# EAGLE library part FT232RQ (library IC_Interface)
USB Bridge, USB to UART USB 2.0 UART Interface Datasheet <https://www.ftdichip.com/Support/Documents/DataSheets/ICs/DS_FT232R.pdf>
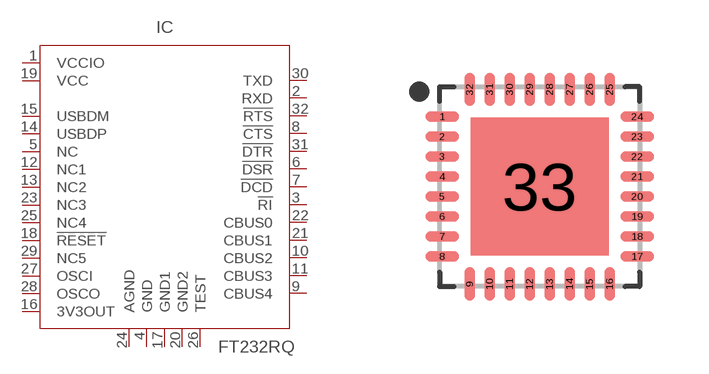
[diagram p11: symbol with the pads of QFN50P500X500X100-33T345; footprint QFN50P500X500X100-33T345]

Designator prefix IC

## FT232RQ_QFN (CATEGORY: IC_Interface; MANUFACTURER: FTDI Chip; MPN: FT232RQ; OPERATING_TEMP: -40 to 85°C; PART_STATUS: Active; ROHS_COMPLIANT: Compliant; SUB-CATEGORY: Controller; THERMALLOSS: 0.5W; TYPE: USB to UART; VALUE: FT232RQ)  [QFN50P500X500X100-33T345]
1  VCCIO  pwr
2  RXD  in
3  !RI  in
4  GND  pwr
5  NC  nc
6  !DSR  in
7  !DCD  in
8  !CTS  in
9  CBUS4
10  CBUS2
11  CBUS3
12  NC1  nc
13  NC2  nc
14  USBDP
15  USBDM
16  3V3OUT  out
17  GND1  pwr
18  !RESET  in
19  VCC  pwr
20  GND2  pwr
21  CBUS1
22  CBUS0
23  NC3  nc
24  AGND  pwr
25  NC4  nc
26  TEST  in
27  OSCI  in
28  OSCO  in
29  NC5  nc
30  TXD  out
31  !DTR  out
32  !RTS  out

## Footprint QFN50P500X500X100-33T345 (pad centres in mm)
32-QFN, 0.50 mm pitch, 5.00 X 5.00 X 1.00 mm body, 3.45 X 3.45 mm thermal pad 32-pin QFN package with 0.50 mm pitch with body size 5.00 X 5.00 X 1.00 mm and thermal pad size 3.45 X 3.45 mm
smd 0.837 x 0.264: 1 -2.437,1.75; 2 -2.437,1.25; 3 -2.437,0.75; 4 -2.437,0.25; 5 -2.437,-0.25; 6 -2.437,-0.75; 7 -2.437,-1.25; 8 -2.437,-1.75; 17 2.437,-1.75; 18 2.437,-1.25; 19 2.437,-0.75; 20 2.437,-0.25; 21 2.437,0.25; 22 2.437,0.75; 23 2.437,1.25; 24 2.437,1.75
smd 0.264 x 0.837: 9 -1.75,-2.437; 10 -1.25,-2.437; 11 -0.75,-2.437; 12 -0.25,-2.437; 13 0.25,-2.437; 14 0.75,-2.437; 15 1.25,-2.437; 16 1.75,-2.437; 25 1.75,2.437; 26 1.25,2.437; 27 0.75,2.437; 28 0.25,2.437; 29 -0.25,2.437; 30 -0.75,2.437; 31 -1.25,2.437; 32 -1.75,2.437
smd 3.45 x 3.45: 33 0,0